# Altium integrated library NX2016SA-32M-EXS00A-CS06465.Library.IntLib: 1 symbol
Pins are listed as number, name and electrical type; pins without a type are passive.

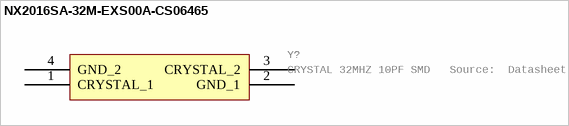
[diagram p0: symbol NX2016SA-32M-EXS00A-CS06465]

## NX2016SA-32M-EXS00A-CS06465
designator Y?, comment CRYSTAL 32MHZ 10PF SMD   Source:  Datasheet
Manufacturer_Name: NDK; GateName_1: G$1; SymbolName_1: NX2016SA-32M-EXS00A-CS06465; LibraryName: NX2016SA-32M-EXS00A-CS06465; DeviceSetName: NX2016SA-32M-EXS00A-CS06465; Package: NX2016SA32MEXS00ACS06465; Manufacturer_Part_Number: NX2016SA-32M-EXS00A-CS06465; Mouser_Part_Number: 344-NX2016SA32S06465; Mouser_Price-Stock: https://www.mouser.co.uk/ProductDetail/NDK/NX2016SA-32M-EXS00A-CS06465?qs=w%2Fv1CP2dgqr82b0JjRnv4A%3D%3D; Height: 0.5mm
footprint NX2016SA32MEXS00ACS06465
pins: 1 CRYSTAL_1, 2 GND_1, 3 CRYSTAL_2, 4 GND_2